# Altium schematic symbol library flex_Sch.SchLib: 2 symbols
Pins are listed as number, name and electrical type; pins without a type are passive.

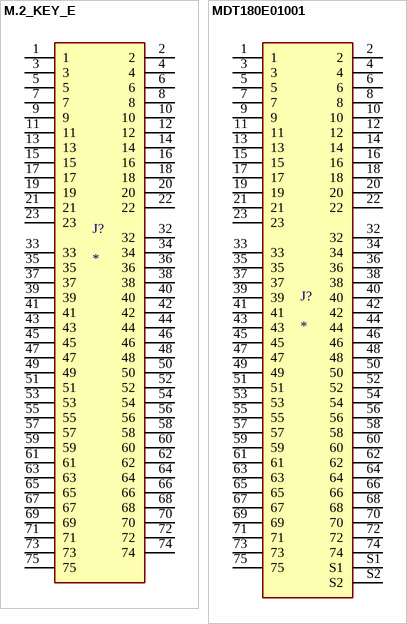
[diagram p0: symbols M.2_KEY_E to MDT180E01001]

## M.2_KEY_E
designator J?
footprint M.2_KEY_E
pins: 1, 2, 3, 4, 5, 6, 7, 8, 9, 10, 11, 12, 13, 14, 15, 16, 17, 18, 19, 20, 21, 22, 23, 32, 33, 34, 35, 36, 37, 38, 39, 40, 41, 42, 43, 44, 45, 46, 47, 48, 49, 50, 51, 52, 53, 54, 55, 56, 57, 58, 59, 60, 61, 62, 63, 64, 65, 66, 67, 68, 69, 70, 71, 72, 73, 74, 75

## MDT180E01001
designator J?
PCIe M.2 Connectors, Storage and Server Connector, P=0.5mm, H=1.8mm, Key E, 30Î¼in Au Plating; MP: MDT180E01001; MF: Amphenol; Value: *; Purchase-URL: https://pricing.snapeda.com/search/part/MDT180E01001/?ref=eda; SnapEDA_Link: https://www.snapeda.com/parts/MDT180E01001/Amphenol/view-part/?ref=snap; Price: None; Package: None; Check_prices: https://www.snapeda.com/parts/MDT180E01001/Amphenol/view-part/?ref=eda; Availability: In Stock
footprint AMPHENOL_MDT180E01001
pins: 1, 2, 3, 4, 5, 6, 7, 8, 9, 10, 11, 12, 13, 14, 15, 16, 17, 18, 19, 20, 21, 22, 23, 32, 33, 34, 35, 36, 37, 38, 39, 40, 41, 42, 43, 44, 45, 46, 47, 48, 49, 50, 51, 52, 53, 54, 55, 56, 57, 58, 59, 60, 61, 62, 63, 64, 65, 66, 67, 68, 69, 70, 71, 72, 73, 74, 75, S1, S2